# Altium footprint library Midas.PcbLib: 6 footprints
Each footprint in its own frame and in the unit in brackets; x right, y up, seen from the top. Pads: shape width x height; smd on the part's side, far side on the other; paste and mask are expansions set on the pad; w line width, h text height; cw(c..) or ccw(c..) is an arc to the next point about the centre after c.
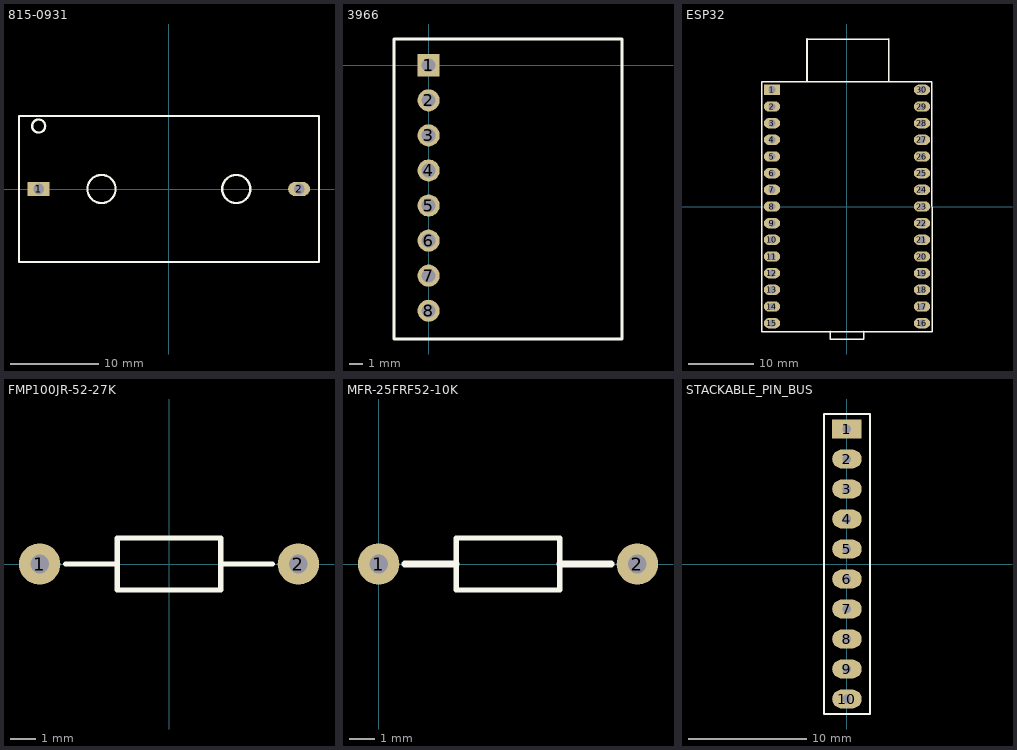
[diagram p0: the footprints below, top view; thin cyan lines are the x and y axes]

## 815-0931 [mm]
pads (2):
  rect 2.5x1.6 hole 1.19: 1(-14.73,0)
  oval 2.5x1.6 hole 1.19: 2(14.73,0)
Top Overlay:
  circle w0.254: c-14.73,7.12 r0.74
  circle w0.254: c7.62,0 r1.59
  circle w0.254: c-7.62,0 r1.59
  lines w0.2: -16.955,-8.25 16.975,-8.25 ; -16.95,-8.255 -16.95,8.255 ; -16.95,8.25 16.98,8.25 ; 16.975,-8.255 16.975,8.255
Mechanical 1:
  text "-" at 10.829,-6.341 h2.54
  text "+" at -12.571,3.256 h2.54
3D body "815-0931--3DModel-STEP-1.STEP": height 14.73, standoff -4.07, extent -16.915,-8.23 17.015,8.28

## 3966 [mm]
pads (8):
  rect 1.6x1.6 hole 1: 1(0,0)
  round 1.6 hole 1: 2(0,-2.54) 3(0,-5.08) 4(0,-7.62) 5(0,-10.16) 6(0,-12.7) 7(0,-15.24) 8(0,-17.78)
Top Overlay:
  lines w0.2: -2.5,-19.825 14,-19.825 14,1.9 -2.5,1.9 -2.5,-19.825
3D body "Adafruit BMP388 Breakout.step": height 1.47, standoff -10.13, extent -2.53,-19.74 13.98,1.85

## ESP32 [mm]
pads (30):
  rect 2.5x1.6 hole 1.1: 1(-11.43,17.78)
  oval 2.5x1.6 hole 1.1: 2(-11.43,15.24) 3(-11.43,12.7) 4(-11.43,10.16) 5(-11.43,7.62) 6(-11.43,5.08) 7(-11.43,2.54) 8(-11.43,0) 9(-11.43,-2.54) 10(-11.43,-5.08) 11(-11.43,-7.62) 12(-11.43,-10.16) 13(-11.43,-12.7) 14(-11.43,-15.24) 15(-11.43,-17.78) 16(11.43,-17.78) 17(11.43,-15.24) 18(11.43,-12.7) 19(11.43,-10.16) 20(11.43,-7.62) 21(11.43,-5.08) 22(11.43,-2.54) 23(11.43,0) 24(11.43,2.54) 25(11.43,5.08) 26(11.43,7.62) 27(11.43,10.16) 28(11.43,12.7) 29(11.43,15.24) 30(11.43,17.78)
Top Overlay:
  lines w0.2: -6.096,25.527 6.35,25.527 ; -2.54,-20.193 2.54,-20.193 ; 6.477,19.05 12.954,19.05 12.954,-19.05 6.477,-19.05 -12.954,-19.05 -12.954,19.05 6.731,19.05
  lines w0.254: -6.096,19.177 -6.096,25.527 ; -2.54,-20.193 -2.54,-19.05 ; 2.54,-20.193 2.54,-19.05 ; 6.35,19.177 6.35,25.527
3D body "ESP32-C3-DevKitC-02--3DModel-STEP-269445.STEP": height 7.49, standoff -6, extent -12.7,-19.387 12.7,26.033

## FMP100JR-52-27K [mm]
pads (2):
  round 1.6 hole 0.725: 1(-5,0) 2(5,0)
Top Overlay:
  lines w0.2: -4,0 -2,0 ; 2,0 4,0 ; -2,-1 -2,1 2,1 2,-1 -2,-1
3D body "4.7K.STEP": height 2.45, standoff -2.7, extent -6.08,-1.2 6.08,1.2

## MFR-25FRF52-10K [mm]
pads (2):
  round 1.6 hole 0.725: 1(0,0) 2(10,0)
Top Overlay:
  lines w0.2: 3,-1 3,1 7,1 7,-1 3,-1
  lines w0.254: 1,0 3,0 ; 7,0 9,0
3D body "Axial_04_1k_blue .step": height 2.73, standoff -2.4, extent -0.33,-1.15 10.33,1.143

## STACKABLE_PIN_BUS [mm]
pads (10):
  rect 2.5x1.6 hole 0.725: 1(0,11.43)
  oval 2.5x1.6 hole 0.725: 2(0,8.89) 3(0,6.35) 4(0,3.81) 5(0,1.27) 6(0,-1.27) 7(0,-3.81) 8(0,-6.35) 9(0,-8.89) 10(0,-11.43)
Top Overlay:
  lines w0.2: -1.94,-12.7 -1.94,12.7 1.95,12.7 1.95,-12.7 -1.94,-12.7
3D body "Pin bus x10.STEP": height 8, standoff -9, extent -1.245,-12.685 1.295,12.715